# Altium schematic symbol library air_hockey_lib.SchLib: 9 symbols
Pins are listed as number, name and electrical type; pins without a type are passive.

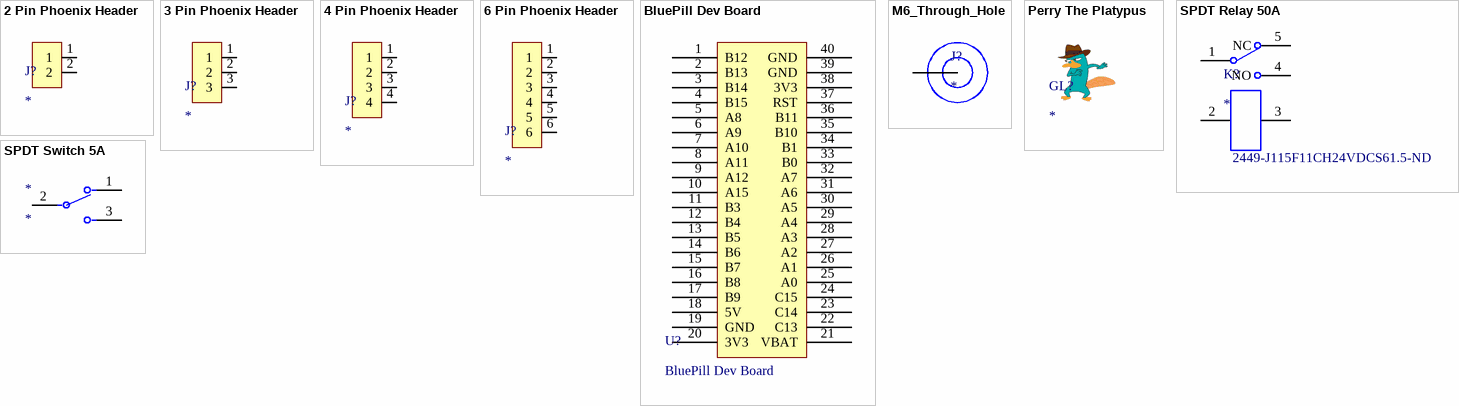
[diagram p0: symbols 2 Pin Phoenix Header to SPDT Switch 5A]

## 2 Pin Phoenix Header
designator J?
footprint 2 Pin Phoenix Header
pins: 1, 2

## 3 Pin Phoenix Header
designator J?
footprint 3 Pin Phoenix Header
pins: 1, 2, 3

## 4 Pin Phoenix Header
designator J?
footprint 4 Pin Phoenix Header
pins: 1, 2, 3, 4

## 6 Pin Phoenix Header
designator J?
footprint 6 Pin Phoenix Header
pins: 1, 2, 3, 4, 5, 6

## BluePill Dev Board
designator U?
footprint Blue Pill
pins: 1 B12, 2 B13, 3 B14, 4 B15, 5 A8, 6 A9, 7 A10, 8 A11, 9 A12, 10 A15, 11 B3, 12 B4, 13 B5, 14 B6, 15 B7, 16 B8, 17 B9, 18 5V, 19 GND, 20 3V3, 21 VBAT, 22 C13, 23 C14, 24 C15, 25 A0, 26 A1, 27 A2, 28 A3, 29 A4, 30 A5, 31 A6, 32 A7, 33 B0, 34 B1, 35 B10, 36 B11, 37 RST, 38 3V3, 39 GND, 40 GND

## M6_Through_Hole
designator J?
footprint M6_Through_Hole
pins: 1

## Perry The Platypus
designator GL?
footprint Perry the Platypus

## SPDT Relay 50A
designator K?  Supplier Part Number 1: 2449-J115F11CH24VDCS61.5-ND
Supplier 1: Digi-Key
footprint SPDT Relay 50A
pins: 1, 2, 3, 4 NO, 5 NC

## SPDT Switch 5A
designator *
footprint SPDT 5A
pins: 1, 2, 3